# Altium integrated library ALTIUM-WE-LHMI-rev18a.IntLib: 164 symbols (part 2 of 3)
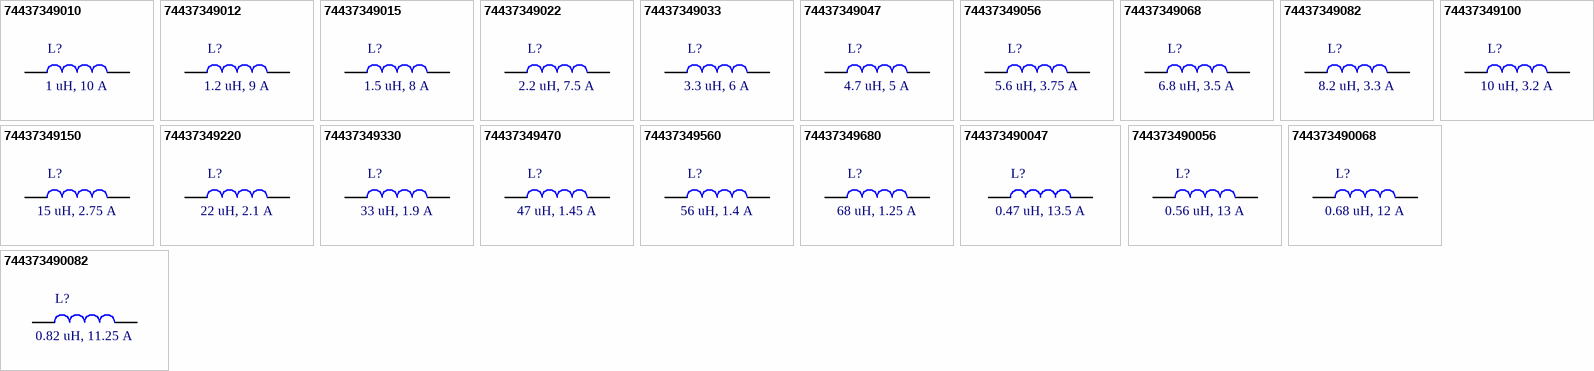
[diagram p11: symbols 74437349010 to 744373490082]

## 74437349015
designator L?, comment 1.5 uH, 8 A
SMT Power Inductor WE-LHMI, size 7050, 1.5 uH, 8 A; Part Number: 74437349015; Rated Current: 8 A; Inductance: 1.5 uH; DC Resistance max.: 9 mOhm; Saturation Current: 14.5 A; Self Resonant Frequency: 35 MHz; ComponentLink1Description: Manufacturer; ComponentLink1URL: http://www.we-online.de; ComponentLink2Description: Datasheet; ComponentLink2URL: https://katalog.we-online.com/pbs/datasheet/74437349015.pdf; Published Date: December 2018; Publisher: Wurth Elektronik; Size: 7050; Operating Temperature: -40 to +125 degC; Mounting Technology: SMT; Packaging: Tape and Reel
footprint WE-LHMI_7050
pins: 1, 2

## 74437349022
designator L?, comment 2.2 uH, 7.5 A
SMT Power Inductor WE-LHMI, size 7050, 2.2 uH, 7.5 A; Part Number: 74437349022; Rated Current: 7.5 A; Inductance: 2.2 uH; DC Resistance max.: 12 mOhm; Saturation Current: 14 A; Self Resonant Frequency: 30 MHz; ComponentLink1Description: Manufacturer; ComponentLink1URL: http://www.we-online.de; ComponentLink2Description: Datasheet; ComponentLink2URL: https://katalog.we-online.com/pbs/datasheet/74437349022.pdf; Published Date: December 2018; Publisher: Wurth Elektronik; Size: 7050; Operating Temperature: -40 to +125 degC; Mounting Technology: SMT; Packaging: Tape and Reel
footprint WE-LHMI_7050
pins: 1, 2

## 74437349033
designator L?, comment 3.3 uH, 6 A
SMT Power Inductor WE-LHMI, size 7050, 3.3 uH, 6 A; Part Number: 74437349033; Rated Current: 6 A; Inductance: 3.3 uH; DC Resistance max.: 20.9 mOhm; Saturation Current: 12 A; Self Resonant Frequency: 26 MHz; ComponentLink1Description: Manufacturer; ComponentLink1URL: http://www.we-online.de; ComponentLink2Description: Datasheet; ComponentLink2URL: https://katalog.we-online.com/pbs/datasheet/74437349033.pdf; Published Date: December 2018; Publisher: Wurth Elektronik; Size: 7050; Operating Temperature: -40 to +125 degC; Mounting Technology: SMT; Packaging: Tape and Reel
footprint WE-LHMI_7050
pins: 1, 2

## 74437349047
designator L?, comment 4.7 uH, 5 A
SMT Power Inductor WE-LHMI, size 7050, 4.7 uH, 5 A; Part Number: 74437349047; Rated Current: 5 A; Inductance: 4.7 uH; DC Resistance max.: 30.8 mOhm; Saturation Current: 11 A; Self Resonant Frequency: 24 MHz; ComponentLink1Description: Manufacturer; ComponentLink1URL: http://www.we-online.de; ComponentLink2Description: Datasheet; ComponentLink2URL: https://katalog.we-online.com/pbs/datasheet/74437349047.pdf; Published Date: December 2018; Publisher: Wurth Elektronik; Size: 7050; Operating Temperature: -40 to +125 degC; Mounting Technology: SMT; Packaging: Tape and Reel
footprint WE-LHMI_7050
pins: 1, 2

## 74437349056
designator L?, comment 5.6 uH, 3.75 A
SMT Power Inductor WE-LHMI, size 7050, 5.6 uH, 3.75 A; Part Number: 74437349056; Rated Current: 3.75 A; Inductance: 5.6 uH; DC Resistance max.: 49 mOhm; Saturation Current: 10.5 A; Self Resonant Frequency: 17 MHz; ComponentLink1Description: Manufacturer; ComponentLink1URL: http://www.we-online.de; ComponentLink2Description: Datasheet; ComponentLink2URL: https://katalog.we-online.com/pbs/datasheet/74437349056.pdf; Published Date: December 2018; Publisher: Wurth Elektronik; Size: 7050; Operating Temperature: -40 to +125 degC; Mounting Technology: SMT; Packaging: Tape and Reel
footprint WE-LHMI_7050
pins: 1, 2

## 74437349068
designator L?, comment 6.8 uH, 3.5 A
SMT Power Inductor WE-LHMI, size 7050, 6.8 uH, 3.5 A; Part Number: 74437349068; Rated Current: 3.5 A; Inductance: 6.8 uH; DC Resistance max.: 51.5 mOhm; Saturation Current: 9.5 A; Self Resonant Frequency: 16 MHz; ComponentLink1Description: Manufacturer; ComponentLink1URL: http://www.we-online.de; ComponentLink2Description: Datasheet; ComponentLink2URL: https://katalog.we-online.com/pbs/datasheet/74437349068.pdf; Published Date: December 2018; Publisher: Wurth Elektronik; Size: 7050; Operating Temperature: -40 to +125 degC; Mounting Technology: SMT; Packaging: Tape and Reel
footprint WE-LHMI_7050
pins: 1, 2

## 74437349082
designator L?, comment 8.2 uH, 3.3 A
SMT Power Inductor WE-LHMI, size 7050, 8.2 uH, 3.3 A; Part Number: 74437349082; Rated Current: 3.3 A; Inductance: 8.2 uH; DC Resistance max.: 63 mOhm; Saturation Current: 9 A; Self Resonant Frequency: 15 MHz; ComponentLink1Description: Manufacturer; ComponentLink1URL: http://www.we-online.de; ComponentLink2Description: Datasheet; ComponentLink2URL: https://katalog.we-online.com/pbs/datasheet/74437349082.pdf; Published Date: December 2018; Publisher: Wurth Elektronik; Size: 7050; Operating Temperature: -40 to +125 degC; Mounting Technology: SMT; Packaging: Tape and Reel
footprint WE-LHMI_7050
pins: 1, 2

## 74437349100
designator L?, comment 10 uH, 3.2 A
SMT Power Inductor WE-LHMI, size 7050, 10 uH, 3.2 A; Part Number: 74437349100; Rated Current: 3.2 A; Inductance: 10 uH; DC Resistance max.: 69 mOhm; Saturation Current: 8 A; Self Resonant Frequency: 12 MHz; ComponentLink1Description: Manufacturer; ComponentLink1URL: http://www.we-online.de; ComponentLink2Description: Datasheet; ComponentLink2URL: https://katalog.we-online.com/pbs/datasheet/74437349100.pdf; Published Date: December 2018; Publisher: Wurth Elektronik; Size: 7050; Operating Temperature: -40 to +125 degC; Mounting Technology: SMT; Packaging: Tape and Reel
footprint WE-LHMI_7050
pins: 1, 2

## 74437349150
designator L?, comment 15 uH, 2.75 A
SMT Power Inductor WE-LHMI, size 7050, 15 uH, 2.75 A; Part Number: 74437349150; Rated Current: 2.75 A; Inductance: 15 uH; DC Resistance max.: 92 mOhm; Saturation Current: 5.5 A; Self Resonant Frequency: 10 MHz; ComponentLink1Description: Manufacturer; ComponentLink1URL: http://www.we-online.de; ComponentLink2Description: Datasheet; ComponentLink2URL: https://katalog.we-online.com/pbs/datasheet/74437349150.pdf; Published Date: December 2018; Publisher: Wurth Elektronik; Size: 7050; Operating Temperature: -40 to +125 degC; Mounting Technology: SMT; Packaging: Tape and Reel
footprint WE-LHMI_7050
pins: 1, 2

## 74437349220
designator L?, comment 22 uH, 2.1 A
SMT Power Inductor WE-LHMI, size 7050, 22 uH, 2.1 A; Part Number: 74437349220; Rated Current: 2.1 A; Inductance: 22 uH; DC Resistance max.: 170 mOhm; Saturation Current: 6.5 A; Self Resonant Frequency: 8 MHz; ComponentLink1Description: Manufacturer; ComponentLink1URL: http://www.we-online.de; ComponentLink2Description: Datasheet; ComponentLink2URL: https://katalog.we-online.com/pbs/datasheet/74437349220.pdf; Published Date: December 2018; Publisher: Wurth Elektronik; Size: 7050; Operating Temperature: -40 to +125 degC; Mounting Technology: SMT; Packaging: Tape and Reel
footprint WE-LHMI_7050
pins: 1, 2

## 74437349330
designator L?, comment 33 uH, 1.9 A
SMT Power Inductor WE-LHMI, size 7050, 33 uH, 1.9 A; Part Number: 74437349330; Rated Current: 1.9 A; Inductance: 33 uH; DC Resistance max.: 200 mOhm; Saturation Current: 3.5 A; Self Resonant Frequency: 7.5 MHz; ComponentLink1Description: Manufacturer; ComponentLink1URL: http://www.we-online.de; ComponentLink2Description: Datasheet; ComponentLink2URL: https://katalog.we-online.com/pbs/datasheet/74437349330.pdf; Published Date: December 2018; Publisher: Wurth Elektronik; Size: 7050; Operating Temperature: -40 to +125 degC; Mounting Technology: SMT; Packaging: Tape and Reel
footprint WE-LHMI_7050
pins: 1, 2

## 74437349470
designator L?, comment 47 uH, 1.45 A
SMT Power Inductor WE-LHMI, size 7050, 47 uH, 1.45 A; Part Number: 74437349470; Rated Current: 1.45 A; Inductance: 47 uH; DC Resistance max.: 330 mOhm; Saturation Current: 2.45 A; Self Resonant Frequency: 7.3 MHz; ComponentLink1Description: Manufacturer; ComponentLink1URL: http://www.we-online.de; ComponentLink2Description: Datasheet; ComponentLink2URL: https://katalog.we-online.com/pbs/datasheet/74437349470.pdf; Published Date: December 2018; Publisher: Wurth Elektronik; Size: 7050; Operating Temperature: -40 to +125 degC; Mounting Technology: SMT; Packaging: Tape and Reel
footprint WE-LHMI_7050
pins: 1, 2

## 74437349560
designator L?, comment 56 uH, 1.4 A
SMT Power Inductor WE-LHMI, size 7050, 56 uH, 1.4 A; Part Number: 74437349560; Rated Current: 1.4 A; Inductance: 56 uH; DC Resistance max.: 396 mOhm; Saturation Current: 2 A; Self Resonant Frequency: 6 MHz; ComponentLink1Description: Manufacturer; ComponentLink1URL: http://www.we-online.de; ComponentLink2Description: Datasheet; ComponentLink2URL: https://katalog.we-online.com/pbs/datasheet/74437349560.pdf; Published Date: December 2018; Publisher: Wurth Elektronik; Size: 7050; Operating Temperature: -40 to +125 degC; Mounting Technology: SMT; Packaging: Tape and Reel
footprint WE-LHMI_7050
pins: 1, 2

## 74437349680
designator L?, comment 68 uH, 1.25 A
SMT Power Inductor WE-LHMI, size 7050, 68 uH, 1.25 A; Part Number: 74437349680; Rated Current: 1.25 A; Inductance: 68 uH; DC Resistance max.: 445 mOhm; Saturation Current: 2.5 A; Self Resonant Frequency: 3.5 MHz; ComponentLink1Description: Manufacturer; ComponentLink1URL: http://www.we-online.de; ComponentLink2Description: Datasheet; ComponentLink2URL: https://katalog.we-online.com/pbs/datasheet/74437349680.pdf; Published Date: December 2018; Publisher: Wurth Elektronik; Size: 7050; Operating Temperature: -40 to +125 degC; Mounting Technology: SMT; Packaging: Tape and Reel
footprint WE-LHMI_7050
pins: 1, 2

## 744373490047
designator L?, comment 0.47 uH, 13.5 A
SMT Power Inductor WE-LHMI, size 7050, 0.47 uH, 13.5 A; Part Number: 744373490047; Rated Current: 13.5 A; Inductance: 0.47 uH; DC Resistance max.: 3.9 mOhm; Saturation Current: 30 A; Self Resonant Frequency: 96 MHz; ComponentLink1Description: Manufacturer; ComponentLink1URL: http://www.we-online.de; ComponentLink2Description: Datasheet; ComponentLink2URL: https://katalog.we-online.com/pbs/datasheet/744373490047.pdf; Published Date: December 2018; Publisher: Wurth Elektronik; Size: 7050; Operating Temperature: -40 to +125 degC; Mounting Technology: SMT; Packaging: Tape and Reel
footprint WE-LHMI_7050
pins: 1, 2

## 744373490056
designator L?, comment 0.56 uH, 13 A
SMT Power Inductor WE-LHMI, size 7050, 0.56 uH, 13 A; Part Number: 744373490056; Rated Current: 13 A; Inductance: 0.56 uH; DC Resistance max.: 4.2 mOhm; Saturation Current: 28 A; Self Resonant Frequency: 85 MHz; ComponentLink1Description: Manufacturer; ComponentLink1URL: http://www.we-online.de; ComponentLink2Description: Datasheet; ComponentLink2URL: https://katalog.we-online.com/pbs/datasheet/744373490056.pdf; Published Date: December 2018; Publisher: Wurth Elektronik; Size: 7050; Operating Temperature: -40 to +125 degC; Mounting Technology: SMT; Packaging: Tape and Reel
footprint WE-LHMI_7050
pins: 1, 2

## 744373490068
designator L?, comment 0.68 uH, 12 A
SMT Power Inductor WE-LHMI, size 7050, 0.68 uH, 12 A; Part Number: 744373490068; Rated Current: 12 A; Inductance: 0.68 uH; DC Resistance max.: 4.5 mOhm; Saturation Current: 26 A; Self Resonant Frequency: 73 MHz; ComponentLink1Description: Manufacturer; ComponentLink1URL: http://www.we-online.de; ComponentLink2Description: Datasheet; ComponentLink2URL: https://katalog.we-online.com/pbs/datasheet/744373490068.pdf; Published Date: December 2018; Publisher: Wurth Elektronik; Size: 7050; Operating Temperature: -40 to +125 degC; Mounting Technology: SMT; Packaging: Tape and Reel
footprint WE-LHMI_7050
pins: 1, 2

## 744373490082
designator L?, comment 0.82 uH, 11.25 A
SMT Power Inductor WE-LHMI, size 7050, 0.82 uH, 11.25 A; Part Number: 744373490082; Rated Current: 11.25 A; Inductance: 0.82 uH; DC Resistance max.: 4.9 mOhm; Saturation Current: 25 A; Self Resonant Frequency: 70 MHz; ComponentLink1Description: Manufacturer; ComponentLink1URL: http://www.we-online.de; ComponentLink2Description: Datasheet; ComponentLink2URL: https://katalog.we-online.com/pbs/datasheet/744373490082.pdf; Published Date: December 2018; Publisher: Wurth Elektronik; Size: 7050; Operating Temperature: -40 to +125 degC; Mounting Technology: SMT; Packaging: Tape and Reel
footprint WE-LHMI_7050
pins: 1, 2


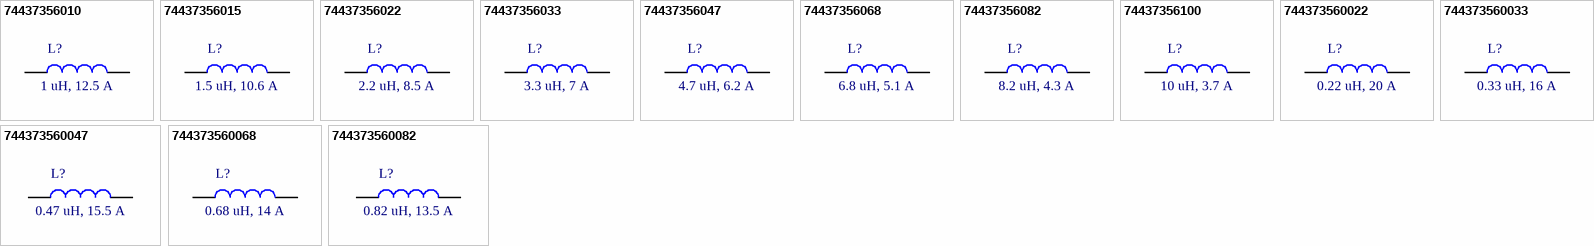
[diagram p6: symbols 74437356010 to 744373560082]

## 74437356010
designator L?, comment 1 uH, 12.5 A
SMT Power Inductor WE-LHMI, size 8030, 1 uH, 12.5 A; Part Number: 74437356010; Rated Current: 12.5 A; Inductance: 1 uH; DC Resistance max.: 8.35 mOhm; Saturation Current: 25.5 A; Self Resonant Frequency: 44 MHz; ComponentLink1Description: Manufacturer; ComponentLink1URL: http://www.we-online.de; ComponentLink2Description: Datasheet; ComponentLink2URL: https://katalog.we-online.com/pbs/datasheet/74437356010.pdf; Published Date: December 2018; Publisher: Wurth Elektronik; Size: 8030; Operating Temperature: -40 to +125 degC; Mounting Technology: SMT; Packaging: Tape and Reel
footprint WE-LHMI_8030
pins: 1, 2

## 74437356015
designator L?, comment 1.5 uH, 10.6 A
SMT Power Inductor WE-LHMI, size 8030, 1.5 uH, 10.6 A; Part Number: 74437356015; Rated Current: 10.6 A; Inductance: 1.5 uH; DC Resistance max.: 13.3 mOhm; Saturation Current: 21 A; Self Resonant Frequency: 32 MHz; ComponentLink1Description: Manufacturer; ComponentLink1URL: http://www.we-online.de; ComponentLink2Description: Datasheet; ComponentLink2URL: https://katalog.we-online.com/pbs/datasheet/74437356015.pdf; Published Date: December 2018; Publisher: Wurth Elektronik; Size: 8030; Operating Temperature: -40 to +125 degC; Mounting Technology: SMT; Packaging: Tape and Reel
footprint WE-LHMI_8030
pins: 1, 2

## 74437356022
designator L?, comment 2.2 uH, 8.5 A
SMT Power Inductor WE-LHMI, size 8030, 2.2 uH, 8.5 A; Part Number: 74437356022; Rated Current: 8.5 A; Inductance: 2.2 uH; DC Resistance max.: 20.3 mOhm; Saturation Current: 15.5 A; Self Resonant Frequency: 24 MHz; ComponentLink1Description: Manufacturer; ComponentLink1URL: http://www.we-online.de; ComponentLink2Description: Datasheet; ComponentLink2URL: https://katalog.we-online.com/pbs/datasheet/74437356022.pdf; Published Date: December 2018; Publisher: Wurth Elektronik; Size: 8030; Operating Temperature: -40 to +125 degC; Mounting Technology: SMT; Packaging: Tape and Reel
footprint WE-LHMI_8030
pins: 1, 2

## 74437356033
designator L?, comment 3.3 uH, 7 A
SMT Power Inductor WE-LHMI, size 8030, 3.3 uH, 7 A; Part Number: 74437356033; Rated Current: 7 A; Inductance: 3.3 uH; DC Resistance max.: 27.4 mOhm; Saturation Current: 12.5 A; Self Resonant Frequency: 19 MHz; ComponentLink1Description: Manufacturer; ComponentLink1URL: http://www.we-online.de; ComponentLink2Description: Datasheet; ComponentLink2URL: https://katalog.we-online.com/pbs/datasheet/74437356033.pdf; Published Date: December 2018; Publisher: Wurth Elektronik; Size: 8030; Operating Temperature: -40 to +125 degC; Mounting Technology: SMT; Packaging: Tape and Reel
footprint WE-LHMI_8030
pins: 1, 2

## 74437356047
designator L?, comment 4.7 uH, 6.2 A
SMT Power Inductor WE-LHMI, size 8030, 4.7 uH, 6.2 A; Part Number: 74437356047; Rated Current: 6.2 A; Inductance: 4.7 uH; DC Resistance max.: 34.2 mOhm; Saturation Current: 11 A; Self Resonant Frequency: 16 MHz; ComponentLink1Description: Manufacturer; ComponentLink1URL: http://www.we-online.de; ComponentLink2Description: Datasheet; ComponentLink2URL: https://katalog.we-online.com/pbs/datasheet/74437356047.pdf; Published Date: December 2018; Publisher: Wurth Elektronik; Size: 8030; Operating Temperature: -40 to +125 degC; Mounting Technology: SMT; Packaging: Tape and Reel
footprint WE-LHMI_8030
pins: 1, 2

## 74437356068
designator L?, comment 6.8 uH, 5.1 A
SMT Power Inductor WE-LHMI, size 8030, 6.8 uH, 5.1 A; Part Number: 74437356068; Rated Current: 5.1 A; Inductance: 6.8 uH; DC Resistance max.: 49.3 mOhm; Saturation Current: 10.5 A; Self Resonant Frequency: 14 MHz; ComponentLink1Description: Manufacturer; ComponentLink1URL: http://www.we-online.de; ComponentLink2Description: Datasheet; ComponentLink2URL: https://katalog.we-online.com/pbs/datasheet/74437356068.pdf; Published Date: December 2018; Publisher: Wurth Elektronik; Size: 8030; Operating Temperature: -40 to +125 degC; Mounting Technology: SMT; Packaging: Tape and Reel
footprint WE-LHMI_8030
pins: 1, 2

## 74437356082
designator L?, comment 8.2 uH, 4.3 A
SMT Power Inductor WE-LHMI, size 8030, 8.2 uH, 4.3 A; Part Number: 74437356082; Rated Current: 4.3 A; Inductance: 8.2 uH; DC Resistance max.: 59.3 mOhm; Saturation Current: 10.4 A; Self Resonant Frequency: 11 MHz; ComponentLink1Description: Manufacturer; ComponentLink1URL: http://www.we-online.de; ComponentLink2Description: Datasheet; ComponentLink2URL: https://katalog.we-online.com/pbs/datasheet/74437356082.pdf; Published Date: December 2018; Publisher: Wurth Elektronik; Size: 8030; Operating Temperature: -40 to +125 degC; Mounting Technology: SMT; Packaging: Tape and Reel
footprint WE-LHMI_8030
pins: 1, 2

## 74437356100
designator L?, comment 10 uH, 3.7 A
SMT Power Inductor WE-LHMI, size 8030, 10 uH, 3.7 A; Part Number: 74437356100; Rated Current: 3.7 A; Inductance: 10 uH; DC Resistance max.: 71.2 mOhm; Saturation Current: 10 A; Self Resonant Frequency: 10 MHz; ComponentLink1Description: Manufacturer; ComponentLink1URL: http://www.we-online.de; ComponentLink2Description: Datasheet; ComponentLink2URL: https://katalog.we-online.com/pbs/datasheet/74437356100.pdf; Published Date: December 2018; Publisher: Wurth Elektronik; Size: 8030; Operating Temperature: -40 to +125 degC; Mounting Technology: SMT; Packaging: Tape and Reel
footprint WE-LHMI_8030
pins: 1, 2

## 744373560022
designator L?, comment 0.22 uH, 20 A
SMT Power Inductor WE-LHMI, size 8030, 0.22 uH, 20 A; Part Number: 744373560022; Rated Current: 20 A; Inductance: 0.22 uH; DC Resistance max.: 1.61 mOhm; Saturation Current: 40 A; Self Resonant Frequency: 110 MHz; ComponentLink1Description: Manufacturer; ComponentLink1URL: http://www.we-online.de; ComponentLink2Description: Datasheet; ComponentLink2URL: https://katalog.we-online.com/pbs/datasheet/744373560022.pdf; Published Date: December 2018; Publisher: Wurth Elektronik; Size: 8030; Operating Temperature: -40 to +125 degC; Mounting Technology: SMT; Packaging: Tape and Reel
footprint WE-LHMI_8030
pins: 1, 2

## 744373560033
designator L?, comment 0.33 uH, 16 A
SMT Power Inductor WE-LHMI, size 8030, 0.33 uH, 16 A; Part Number: 744373560033; Rated Current: 16 A; Inductance: 0.33 uH; DC Resistance max.: 2.57 mOhm; Saturation Current: 39 A; Self Resonant Frequency: 95 MHz; ComponentLink1Description: Manufacturer; ComponentLink1URL: http://www.we-online.de; ComponentLink2Description: Datasheet; ComponentLink2URL: https://katalog.we-online.com/pbs/datasheet/744373560033.pdf; Published Date: December 2018; Publisher: Wurth Elektronik; Size: 8030; Operating Temperature: -40 to +125 degC; Mounting Technology: SMT; Packaging: Tape and Reel
footprint WE-LHMI_8030
pins: 1, 2

## 744373560047
designator L?, comment 0.47 uH, 15.5 A
SMT Power Inductor WE-LHMI, size 8030, 0.47 uH, 15.5 A; Part Number: 744373560047; Rated Current: 15.5 A; Inductance: 0.47 uH; DC Resistance max.: 3.33 mOhm; Saturation Current: 35 A; Self Resonant Frequency: 72 MHz; ComponentLink1Description: Manufacturer; ComponentLink1URL: http://www.we-online.de; ComponentLink2Description: Datasheet; ComponentLink2URL: https://katalog.we-online.com/pbs/datasheet/744373560047.pdf; Published Date: December 2018; Publisher: Wurth Elektronik; Size: 8030; Operating Temperature: -40 to +125 degC; Mounting Technology: SMT; Packaging: Tape and Reel
footprint WE-LHMI_8030
pins: 1, 2

## 744373560068
designator L?, comment 0.68 uH, 14 A
SMT Power Inductor WE-LHMI, size 8030, 0.68 uH, 14 A; Part Number: 744373560068; Rated Current: 14 A; Inductance: 0.68 uH; DC Resistance max.: 3.99 mOhm; Saturation Current: 32.5 A; Self Resonant Frequency: 53 MHz; ComponentLink1Description: Manufacturer; ComponentLink1URL: http://www.we-online.de; ComponentLink2Description: Datasheet; ComponentLink2URL: https://katalog.we-online.com/pbs/datasheet/744373560068.pdf; Published Date: December 2018; Publisher: Wurth Elektronik; Size: 8030; Operating Temperature: -40 to +125 degC; Mounting Technology: SMT; Packaging: Tape and Reel
footprint WE-LHMI_8030
pins: 1, 2

## 744373560082
designator L?, comment 0.82 uH, 13.5 A
SMT Power Inductor WE-LHMI, size 8030, 0.82 uH, 13.5 A; Part Number: 744373560082; Rated Current: 13.5 A; Inductance: 0.82 uH; DC Resistance max.: 4.87 mOhm; Saturation Current: 30.5 A; Self Resonant Frequency: 51 MHz; ComponentLink1Description: Manufacturer; ComponentLink1URL: http://www.we-online.de; ComponentLink2Description: Datasheet; ComponentLink2URL: https://katalog.we-online.com/pbs/datasheet/744373560082.pdf; Published Date: December 2018; Publisher: Wurth Elektronik; Size: 8030; Operating Temperature: -40 to +125 degC; Mounting Technology: SMT; Packaging: Tape and Reel
footprint WE-LHMI_8030
pins: 1, 2


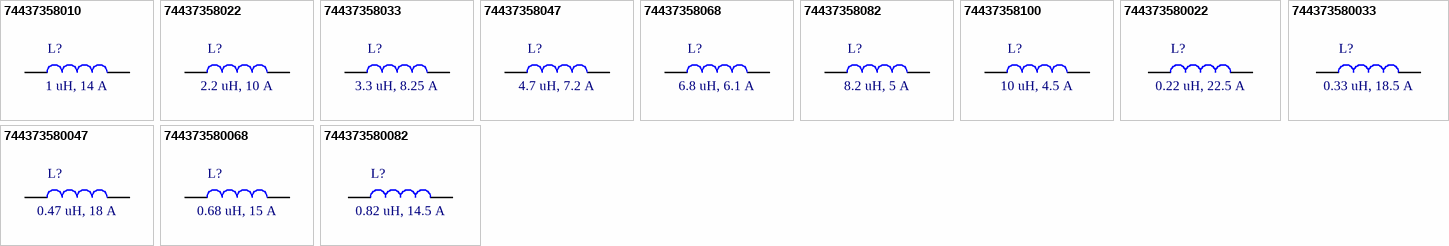
[diagram p7: symbols 74437358010 to 744373580082]

## 74437358010
designator L?, comment 1 uH, 14 A
SMT Power Inductor WE-LHMI, size 8040, 1 uH, 14 A; Part Number: 74437358010; Rated Current: 14 A; Inductance: 1 uH; DC Resistance max.: 4.63 mOhm; Saturation Current: 32.5 A; Self Resonant Frequency: 42 MHz; ComponentLink1Description: Manufacturer; ComponentLink1URL: http://www.we-online.de; ComponentLink2Description: Datasheet; ComponentLink2URL: https://katalog.we-online.com/pbs/datasheet/74437358010.pdf; Published Date: December 2018; Publisher: Wurth Elektronik; Size: 8040; Operating Temperature: -40 to +125 degC; Mounting Technology: SMT; Packaging: Tape and Reel
footprint WE-LHMI_8040
pins: 1, 2

## 74437358022
designator L?, comment 2.2 uH, 10 A
SMT Power Inductor WE-LHMI, size 8040, 2.2 uH, 10 A; Part Number: 74437358022; Rated Current: 10 A; Inductance: 2.2 uH; DC Resistance max.: 9.41 mOhm; Saturation Current: 22 A; Self Resonant Frequency: 29 MHz; ComponentLink1Description: Manufacturer; ComponentLink1URL: http://www.we-online.de; ComponentLink2Description: Datasheet; ComponentLink2URL: https://katalog.we-online.com/pbs/datasheet/74437358022.pdf; Published Date: December 2018; Publisher: Wurth Elektronik; Size: 8040; Operating Temperature: -40 to +125 degC; Mounting Technology: SMT; Packaging: Tape and Reel
footprint WE-LHMI_8040
pins: 1, 2

## 74437358033
designator L?, comment 3.3 uH, 8.25 A
SMT Power Inductor WE-LHMI, size 8040, 3.3 uH, 8.25 A; Part Number: 74437358033; Rated Current: 8.25 A; Inductance: 3.3 uH; DC Resistance max.: 14.9 mOhm; Saturation Current: 20 A; Self Resonant Frequency: 20 MHz; ComponentLink1Description: Manufacturer; ComponentLink1URL: http://www.we-online.de; ComponentLink2Description: Datasheet; ComponentLink2URL: https://katalog.we-online.com/pbs/datasheet/74437358033.pdf; Published Date: December 2018; Publisher: Wurth Elektronik; Size: 8040; Operating Temperature: -40 to +125 degC; Mounting Technology: SMT; Packaging: Tape and Reel
footprint WE-LHMI_8040
pins: 1, 2

## 74437358047
designator L?, comment 4.7 uH, 7.2 A
SMT Power Inductor WE-LHMI, size 8040, 4.7 uH, 7.2 A; Part Number: 74437358047; Rated Current: 7.2 A; Inductance: 4.7 uH; DC Resistance max.: 22.6 mOhm; Saturation Current: 17 A; Self Resonant Frequency: 19 MHz; ComponentLink1Description: Manufacturer; ComponentLink1URL: http://www.we-online.de; ComponentLink2Description: Datasheet; ComponentLink2URL: https://katalog.we-online.com/pbs/datasheet/74437358047.pdf; Published Date: December 2018; Publisher: Wurth Elektronik; Size: 8040; Operating Temperature: -40 to +125 degC; Mounting Technology: SMT; Packaging: Tape and Reel
footprint WE-LHMI_8040
pins: 1, 2

## 74437358068
designator L?, comment 6.8 uH, 6.1 A
SMT Power Inductor WE-LHMI, size 8040, 6.8 uH, 6.1 A; Part Number: 74437358068; Rated Current: 6.1 A; Inductance: 6.8 uH; DC Resistance max.: 33.4 mOhm; Saturation Current: 13.5 A; Self Resonant Frequency: 12 MHz; ComponentLink1Description: Manufacturer; ComponentLink1URL: http://www.we-online.de; ComponentLink2Description: Datasheet; ComponentLink2URL: https://katalog.we-online.com/pbs/datasheet/74437358068.pdf; Published Date: December 2018; Publisher: Wurth Elektronik; Size: 8040; Operating Temperature: -40 to +125 degC; Mounting Technology: SMT; Packaging: Tape and Reel
footprint WE-LHMI_8040
pins: 1, 2

## 74437358082
designator L?, comment 8.2 uH, 5 A
SMT Power Inductor WE-LHMI, size 8040, 8.2 uH, 5 A; Part Number: 74437358082; Rated Current: 5 A; Inductance: 8.2 uH; DC Resistance max.: 45 mOhm; Saturation Current: 13 A; Self Resonant Frequency: 10 MHz; ComponentLink1Description: Manufacturer; ComponentLink1URL: http://www.we-online.de; ComponentLink2Description: Datasheet; ComponentLink2URL: https://katalog.we-online.com/pbs/datasheet/74437358082.pdf; Published Date: December 2018; Publisher: Wurth Elektronik; Size: 8040; Operating Temperature: -40 to +125 degC; Mounting Technology: SMT; Packaging: Tape and Reel
footprint WE-LHMI_8040
pins: 1, 2

## 74437358100
designator L?, comment 10 uH, 4.5 A
SMT Power Inductor WE-LHMI, size 8040, 10 uH, 4.5 A; Part Number: 74437358100; Rated Current: 4.5 A; Inductance: 10 uH; DC Resistance max.: 51.8 mOhm; Saturation Current: 12.4 A; Self Resonant Frequency: 9 MHz; ComponentLink1Description: Manufacturer; ComponentLink1URL: http://www.we-online.de; ComponentLink2Description: Datasheet; ComponentLink2URL: https://katalog.we-online.com/pbs/datasheet/74437358100.pdf; Published Date: December 2018; Publisher: Wurth Elektronik; Size: 8040; Operating Temperature: -40 to +125 degC; Mounting Technology: SMT; Packaging: Tape and Reel
footprint WE-LHMI_8040
pins: 1, 2

## 744373580022
designator L?, comment 0.22 uH, 22.5 A
SMT Power Inductor WE-LHMI, size 8040, 0.22 uH, 22.5 A; Part Number: 744373580022; Rated Current: 22.5 A; Inductance: 0.22 uH; DC Resistance max.: 1.35 mOhm; Saturation Current: 60 A; Self Resonant Frequency: 145 MHz; ComponentLink1Description: Manufacturer; ComponentLink1URL: http://www.we-online.de; ComponentLink2Description: Datasheet; ComponentLink2URL: https://katalog.we-online.com/pbs/datasheet/744373580022.pdf; Published Date: December 2018; Publisher: Wurth Elektronik; Size: 8040; Operating Temperature: -40 to +125 degC; Mounting Technology: SMT; Packaging: Tape and Reel
footprint WE-LHMI_8040
pins: 1, 2

## 744373580033
designator L?, comment 0.33 uH, 18.5 A
SMT Power Inductor WE-LHMI, size 8040, 0.33 uH, 18.5 A; Part Number: 744373580033; Rated Current: 18.5 A; Inductance: 0.33 uH; DC Resistance max.: 2.15 mOhm; Saturation Current: 50 A; Self Resonant Frequency: 96 MHz; ComponentLink1Description: Manufacturer; ComponentLink1URL: http://www.we-online.de; ComponentLink2Description: Datasheet; ComponentLink2URL: https://katalog.we-online.com/pbs/datasheet/744373580033.pdf; Published Date: December 2018; Publisher: Wurth Elektronik; Size: 8040; Operating Temperature: -40 to +125 degC; Mounting Technology: SMT; Packaging: Tape and Reel
footprint WE-LHMI_8040
pins: 1, 2

## 744373580047
designator L?, comment 0.47 uH, 18 A
SMT Power Inductor WE-LHMI, size 8040, 0.47 uH, 18 A; Part Number: 744373580047; Rated Current: 18 A; Inductance: 0.47 uH; DC Resistance max.: 2.38 mOhm; Saturation Current: 42 A; Self Resonant Frequency: 82 MHz; ComponentLink1Description: Manufacturer; ComponentLink1URL: http://www.we-online.de; ComponentLink2Description: Datasheet; ComponentLink2URL: https://katalog.we-online.com/pbs/datasheet/744373580047.pdf; Published Date: December 2018; Publisher: Wurth Elektronik; Size: 8040; Operating Temperature: -40 to +125 degC; Mounting Technology: SMT; Packaging: Tape and Reel
footprint WE-LHMI_8040
pins: 1, 2

## 744373580068
designator L?, comment 0.68 uH, 15 A
SMT Power Inductor WE-LHMI, size 8040, 0.68 uH, 15 A; Part Number: 744373580068; Rated Current: 15 A; Inductance: 0.68 uH; DC Resistance max.: 3.22 mOhm; Saturation Current: 28 A; Self Resonant Frequency: 45 MHz; ComponentLink1Description: Manufacturer; ComponentLink1URL: http://www.we-online.de; ComponentLink2Description: Datasheet; ComponentLink2URL: https://katalog.we-online.com/pbs/datasheet/744373580068.pdf; Published Date: December 2018; Publisher: Wurth Elektronik; Size: 8040; Operating Temperature: -40 to +125 degC; Mounting Technology: SMT; Packaging: Tape and Reel
footprint WE-LHMI_8040
pins: 1, 2

## 744373580082
designator L?, comment 0.82 uH, 14.5 A
SMT Power Inductor WE-LHMI, size 8040, 0.82 uH, 14.5 A; Part Number: 744373580082; Rated Current: 14.5 A; Inductance: 0.82 uH; DC Resistance max.: 3.88 mOhm; Saturation Current: 32 A; Self Resonant Frequency: 51 MHz; ComponentLink1Description: Manufacturer; ComponentLink1URL: http://www.we-online.de; ComponentLink2Description: Datasheet; ComponentLink2URL: https://katalog.we-online.com/pbs/datasheet/744373580082.pdf; Published Date: December 2018; Publisher: Wurth Elektronik; Size: 8040; Operating Temperature: -40 to +125 degC; Mounting Technology: SMT; Packaging: Tape and Reel
footprint WE-LHMI_8040
pins: 1, 2


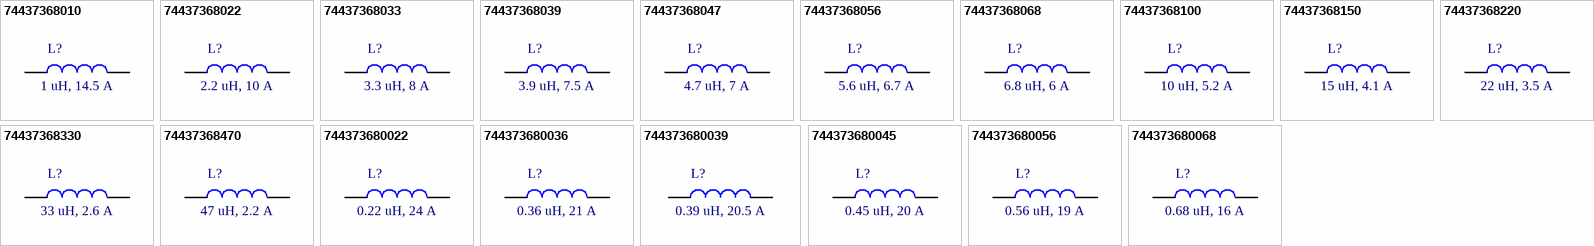
[diagram p8: symbols 74437368010 to 744373680068]

## 74437368010
designator L?, comment 1 uH, 14.5 A
SMT Power Inductor WE-LHMI, size 1040, 1 uH, 14.5 A; Part Number: 74437368010; Rated Current: 14.5 A; Inductance: 1 uH; DC Resistance max.: 3.3 mOhm; Saturation Current: 36 A; Self Resonant Frequency: 45 MHz; ComponentLink1Description: Manufacturer; ComponentLink1URL: http://www.we-online.de; ComponentLink2Description: Datasheet; ComponentLink2URL: https://katalog.we-online.com/pbs/datasheet/74437368010.pdf; Published Date: December 2018; Publisher: Wurth Elektronik; Size: 1040; Operating Temperature: -40 to +125 degC; Mounting Technology: SMT; Packaging: Tape and Reel
footprint WE-LHMI_1040
pins: 1, 2

## 74437368022
designator L?, comment 2.2 uH, 10 A
SMT Power Inductor WE-LHMI, size 1040, 2.2 uH, 10 A; Part Number: 74437368022; Rated Current: 10 A; Inductance: 2.2 uH; DC Resistance max.: 7 mOhm; Saturation Current: 28 A; Self Resonant Frequency: 27 MHz; ComponentLink1Description: Manufacturer; ComponentLink1URL: http://www.we-online.de; ComponentLink2Description: Datasheet; ComponentLink2URL: https://katalog.we-online.com/pbs/datasheet/74437368022.pdf; Published Date: December 2018; Publisher: Wurth Elektronik; Size: 1040; Operating Temperature: -40 to +125 degC; Mounting Technology: SMT; Packaging: Tape and Reel
footprint WE-LHMI_1040
pins: 1, 2

## 74437368033
designator L?, comment 3.3 uH, 8 A
SMT Power Inductor WE-LHMI, size 1040, 3.3 uH, 8 A; Part Number: 74437368033; Rated Current: 8 A; Inductance: 3.3 uH; DC Resistance max.: 11.8 mOhm; Saturation Current: 23 A; Self Resonant Frequency: 22 MHz; ComponentLink1Description: Manufacturer; ComponentLink1URL: http://www.we-online.de; ComponentLink2Description: Datasheet; ComponentLink2URL: https://katalog.we-online.com/pbs/datasheet/74437368033.pdf; Published Date: December 2018; Publisher: Wurth Elektronik; Size: 1040; Operating Temperature: -40 to +125 degC; Mounting Technology: SMT; Packaging: Tape and Reel
footprint WE-LHMI_1040
pins: 1, 2

## 74437368039
designator L?, comment 3.9 uH, 7.5 A
SMT Power Inductor WE-LHMI, size 1040, 3.9 uH, 7.5 A; Part Number: 74437368039; Rated Current: 7.5 A; Inductance: 3.9 uH; DC Resistance max.: 14.5 mOhm; Saturation Current: 19.5 A; Self Resonant Frequency: 17 MHz; ComponentLink1Description: Manufacturer; ComponentLink1URL: http://www.we-online.de; ComponentLink2Description: Datasheet; ComponentLink2URL: https://katalog.we-online.com/pbs/datasheet/74437368039.pdf; Published Date: December 2018; Publisher: Wurth Elektronik; Size: 1040; Operating Temperature: -40 to +125 degC; Mounting Technology: SMT; Packaging: Tape and Reel
footprint WE-LHMI_1040
pins: 1, 2

## 74437368047
designator L?, comment 4.7 uH, 7 A
SMT Power Inductor WE-LHMI, size 1040, 4.7 uH, 7 A; Part Number: 74437368047; Rated Current: 7 A; Inductance: 4.7 uH; DC Resistance max.: 15.5 mOhm; Saturation Current: 19 A; Self Resonant Frequency: 16 MHz; ComponentLink1Description: Manufacturer; ComponentLink1URL: http://www.we-online.de; ComponentLink2Description: Datasheet; ComponentLink2URL: https://katalog.we-online.com/pbs/datasheet/74437368047.pdf; Published Date: December 2018; Publisher: Wurth Elektronik; Size: 1040; Operating Temperature: -40 to +125 degC; Mounting Technology: SMT; Packaging: Tape and Reel
footprint WE-LHMI_1040
pins: 1, 2

## 74437368056
designator L?, comment 5.6 uH, 6.7 A
SMT Power Inductor WE-LHMI, size 1040, 5.6 uH, 6.7 A; Part Number: 74437368056; Rated Current: 6.7 A; Inductance: 5.6 uH; DC Resistance max.: 19.3 mOhm; Saturation Current: 17 A; Self Resonant Frequency: 13 MHz; ComponentLink1Description: Manufacturer; ComponentLink1URL: http://www.we-online.de; ComponentLink2Description: Datasheet; ComponentLink2URL: https://katalog.we-online.com/pbs/datasheet/74437368056.pdf; Published Date: December 2018; Publisher: Wurth Elektronik; Size: 1040; Operating Temperature: -40 to +125 degC; Mounting Technology: SMT; Packaging: Tape and Reel
footprint WE-LHMI_1040
pins: 1, 2

## 74437368068
designator L?, comment 6.8 uH, 6 A
SMT Power Inductor WE-LHMI, size 1040, 6.8 uH, 6 A; Part Number: 74437368068; Rated Current: 6 A; Inductance: 6.8 uH; DC Resistance max.: 23.3 mOhm; Saturation Current: 14 A; Self Resonant Frequency: 13 MHz; ComponentLink1Description: Manufacturer; ComponentLink1URL: http://www.we-online.de; ComponentLink2Description: Datasheet; ComponentLink2URL: https://katalog.we-online.com/pbs/datasheet/74437368068.pdf; Published Date: December 2018; Publisher: Wurth Elektronik; Size: 1040; Operating Temperature: -40 to +125 degC; Mounting Technology: SMT; Packaging: Tape and Reel
footprint WE-LHMI_1040
pins: 1, 2

## 74437368100
designator L?, comment 10 uH, 5.2 A
SMT Power Inductor WE-LHMI, size 1040, 10 uH, 5.2 A; Part Number: 74437368100; Rated Current: 5.2 A; Inductance: 10 uH; DC Resistance max.: 30 mOhm; Saturation Current: 12.5 A; Self Resonant Frequency: 12 MHz; ComponentLink1Description: Manufacturer; ComponentLink1URL: http://www.we-online.de; ComponentLink2Description: Datasheet; ComponentLink2URL: https://katalog.we-online.com/pbs/datasheet/74437368100.pdf; Published Date: December 2018; Publisher: Wurth Elektronik; Size: 1040; Operating Temperature: -40 to +125 degC; Mounting Technology: SMT; Packaging: Tape and Reel
footprint WE-LHMI_1040
pins: 1, 2

## 74437368150
designator L?, comment 15 uH, 4.1 A
SMT Power Inductor WE-LHMI, size 1040, 15 uH, 4.1 A; Part Number: 74437368150; Rated Current: 4.1 A; Inductance: 15 uH; DC Resistance max.: 45 mOhm; Saturation Current: 8.5 A; Self Resonant Frequency: 8 MHz; ComponentLink1Description: Manufacturer; ComponentLink1URL: http://www.we-online.de; ComponentLink2Description: Datasheet; ComponentLink2URL: https://katalog.we-online.com/pbs/datasheet/74437368150.pdf; Published Date: December 2018; Publisher: Wurth Elektronik; Size: 1040; Operating Temperature: -40 to +125 degC; Mounting Technology: SMT; Packaging: Tape and Reel
footprint WE-LHMI_1040
pins: 1, 2

## 74437368220
designator L?, comment 22 uH, 3.5 A
SMT Power Inductor WE-LHMI, size 1040, 22 uH, 3.5 A; Part Number: 74437368220; Rated Current: 3.5 A; Inductance: 22 uH; DC Resistance max.: 74 mOhm; Saturation Current: 8 A; Self Resonant Frequency: 7 MHz; ComponentLink1Description: Manufacturer; ComponentLink1URL: http://www.we-online.de; ComponentLink2Description: Datasheet; ComponentLink2URL: https://katalog.we-online.com/pbs/datasheet/74437368220.pdf; Published Date: December 2018; Publisher: Wurth Elektronik; Size: 1040; Operating Temperature: -40 to +125 degC; Mounting Technology: SMT; Packaging: Tape and Reel
footprint WE-LHMI_1040
pins: 1, 2

## 74437368330
designator L?, comment 33 uH, 2.6 A
SMT Power Inductor WE-LHMI, size 1040, 33 uH, 2.6 A; Part Number: 74437368330; Rated Current: 2.6 A; Inductance: 33 uH; DC Resistance max.: 112 mOhm; Saturation Current: 5 A; Self Resonant Frequency: 6 MHz; ComponentLink1Description: Manufacturer; ComponentLink1URL: http://www.we-online.de; ComponentLink2Description: Datasheet; ComponentLink2URL: https://katalog.we-online.com/pbs/datasheet/74437368330.pdf; Published Date: December 2018; Publisher: Wurth Elektronik; Size: 1040; Operating Temperature: -40 to +125 degC; Mounting Technology: SMT; Packaging: Tape and Reel
footprint WE-LHMI_1040
pins: 1, 2

## 74437368470
designator L?, comment 47 uH, 2.2 A
SMT Power Inductor WE-LHMI, size 1040, 47 uH, 2.2 A; Part Number: 74437368470; Rated Current: 2.2 A; Inductance: 47 uH; DC Resistance max.: 167 mOhm; Saturation Current: 4.5 A; Self Resonant Frequency: 5 MHz; ComponentLink1Description: Manufacturer; ComponentLink1URL: http://www.we-online.de; ComponentLink2Description: Datasheet; ComponentLink2URL: https://katalog.we-online.com/pbs/datasheet/74437368470.pdf; Published Date: December 2018; Publisher: Wurth Elektronik; Size: 1040; Operating Temperature: -40 to +125 degC; Mounting Technology: SMT; Packaging: Tape and Reel
footprint WE-LHMI_1040
pins: 1, 2

## 744373680022
designator L?, comment 0.22 uH, 24 A
SMT Power Inductor WE-LHMI, size 1040, 0.22 uH, 24 A; Part Number: 744373680022; Rated Current: 24 A; Inductance: 0.22 uH; DC Resistance max.: 1 mOhm; Saturation Current: 70 A; Self Resonant Frequency: 153 MHz; ComponentLink1Description: Manufacturer; ComponentLink1URL: http://www.we-online.de; ComponentLink2Description: Datasheet; ComponentLink2URL: https://katalog.we-online.com/pbs/datasheet/744373680022.pdf; Published Date: December 2018; Publisher: Wurth Elektronik; Size: 1040; Operating Temperature: -40 to +125 degC; Mounting Technology: SMT; Packaging: Tape and Reel
footprint WE-LHMI_1040
pins: 1, 2

## 744373680036
designator L?, comment 0.36 uH, 21 A
SMT Power Inductor WE-LHMI, size 1040, 0.36 uH, 21 A; Part Number: 744373680036; Rated Current: 21 A; Inductance: 0.36 uH; DC Resistance max.: 1.2 mOhm; Saturation Current: 64 A; Self Resonant Frequency: 104 MHz; ComponentLink1Description: Manufacturer; ComponentLink1URL: http://www.we-online.de; ComponentLink2Description: Datasheet; ComponentLink2URL: https://katalog.we-online.com/pbs/datasheet/744373680036.pdf; Published Date: December 2018; Publisher: Wurth Elektronik; Size: 1040; Operating Temperature: -40 to +125 degC; Mounting Technology: SMT; Packaging: Tape and Reel
footprint WE-LHMI_1040
pins: 1, 2

## 744373680039
designator L?, comment 0.39 uH, 20.5 A
SMT Power Inductor WE-LHMI, size 1040, 0.39 uH, 20.5 A; Part Number: 744373680039; Rated Current: 20.5 A; Inductance: 0.39 uH; DC Resistance max.: 1.3 mOhm; Saturation Current: 63 A; Self Resonant Frequency: 101 MHz; ComponentLink1Description: Manufacturer; ComponentLink1URL: http://www.we-online.de; ComponentLink2Description: Datasheet; ComponentLink2URL: https://katalog.we-online.com/pbs/datasheet/744373680039.pdf; Published Date: December 2018; Publisher: Wurth Elektronik; Size: 1040; Operating Temperature: -40 to +125 degC; Mounting Technology: SMT; Packaging: Tape and Reel
footprint WE-LHMI_1040
pins: 1, 2

## 744373680045
designator L?, comment 0.45 uH, 20 A
SMT Power Inductor WE-LHMI, size 1040, 0.45 uH, 20 A; Part Number: 744373680045; Rated Current: 20 A; Inductance: 0.45 uH; DC Resistance max.: 1.5 mOhm; Saturation Current: 50 A; Self Resonant Frequency: 82 MHz; ComponentLink1Description: Manufacturer; ComponentLink1URL: http://www.we-online.de; ComponentLink2Description: Datasheet; ComponentLink2URL: https://katalog.we-online.com/pbs/datasheet/744373680045.pdf; Published Date: December 2018; Publisher: Wurth Elektronik; Size: 1040; Operating Temperature: -40 to +125 degC; Mounting Technology: SMT; Packaging: Tape and Reel
footprint WE-LHMI_1040
pins: 1, 2

## 744373680056
designator L?, comment 0.56 uH, 19 A
SMT Power Inductor WE-LHMI, size 1040, 0.56 uH, 19 A; Part Number: 744373680056; Rated Current: 19 A; Inductance: 0.56 uH; DC Resistance max.: 1.8 mOhm; Saturation Current: 44 A; Self Resonant Frequency: 70 MHz; ComponentLink1Description: Manufacturer; ComponentLink1URL: http://www.we-online.de; ComponentLink2Description: Datasheet; ComponentLink2URL: https://katalog.we-online.com/pbs/datasheet/744373680056.pdf; Published Date: December 2018; Publisher: Wurth Elektronik; Size: 1040; Operating Temperature: -40 to +125 degC; Mounting Technology: SMT; Packaging: Tape and Reel
footprint WE-LHMI_1040
pins: 1, 2

## 744373680068
designator L?, comment 0.68 uH, 16 A
SMT Power Inductor WE-LHMI, size 1040, 0.68 uH, 16 A; Part Number: 744373680068; Rated Current: 16 A; Inductance: 0.68 uH; DC Resistance max.: 2.7 mOhm; Saturation Current: 42 A; Self Resonant Frequency: 53 MHz; ComponentLink1Description: Manufacturer; ComponentLink1URL: http://www.we-online.de; ComponentLink2Description: Datasheet; ComponentLink2URL: https://katalog.we-online.com/pbs/datasheet/744373680068.pdf; Published Date: December 2018; Publisher: Wurth Elektronik; Size: 1040; Operating Temperature: -40 to +125 degC; Mounting Technology: SMT; Packaging: Tape and Reel
footprint WE-LHMI_1040
pins: 1, 2


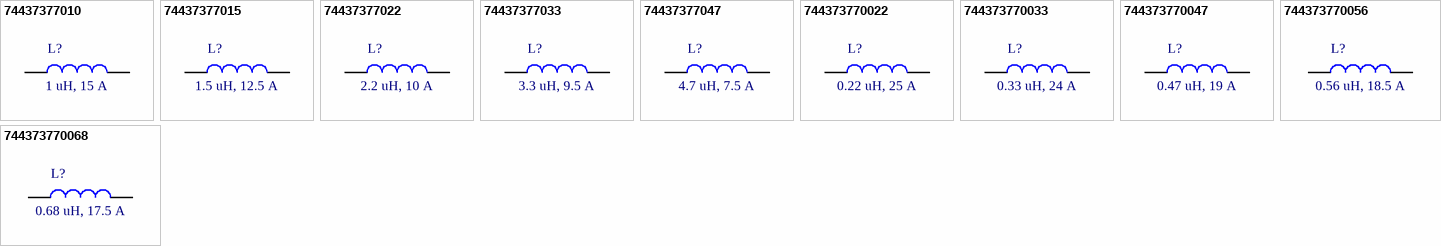
[diagram p9: symbols 74437377010 to 744373770068]

## 74437377010
designator L?, comment 1 uH, 15 A
SMT Power Inductor WE-LHMI, size 1335, 1 uH, 15 A; Part Number: 74437377010; Rated Current: 15 A; Inductance: 1 uH; DC Resistance max.: 3.5 mOhm; Saturation Current: 26 A; Self Resonant Frequency: 41 MHz; ComponentLink1Description: Manufacturer; ComponentLink1URL: http://www.we-online.de; ComponentLink2Description: Datasheet; ComponentLink2URL: https://katalog.we-online.com/pbs/datasheet/74437377010.pdf; Published Date: December 2018; Publisher: Wurth Elektronik; Size: 1335; Operating Temperature: -40 to +125 degC; Mounting Technology: SMT; Packaging: Tape and Reel
footprint WE-LHMI_1335
pins: 1, 2

## 74437377015
designator L?, comment 1.5 uH, 12.5 A
SMT Power Inductor WE-LHMI, size 1335, 1.5 uH, 12.5 A; Part Number: 74437377015; Rated Current: 12.5 A; Inductance: 1.5 uH; DC Resistance max.: 5.5 mOhm; Saturation Current: 25.5 A; Self Resonant Frequency: 30 MHz; ComponentLink1Description: Manufacturer; ComponentLink1URL: http://www.we-online.de; ComponentLink2Description: Datasheet; ComponentLink2URL: https://katalog.we-online.com/pbs/datasheet/74437377015.pdf; Published Date: December 2018; Publisher: Wurth Elektronik; Size: 1335; Operating Temperature: -40 to +125 degC; Mounting Technology: SMT; Packaging: Tape and Reel
footprint WE-LHMI_1335
pins: 1, 2

## 74437377022
designator L?, comment 2.2 uH, 10 A
SMT Power Inductor WE-LHMI, size 1335, 2.2 uH, 10 A; Part Number: 74437377022; Rated Current: 10 A; Inductance: 2.2 uH; DC Resistance max.: 8 mOhm; Saturation Current: 25 A; Self Resonant Frequency: 22 MHz; ComponentLink1Description: Manufacturer; ComponentLink1URL: http://www.we-online.de; ComponentLink2Description: Datasheet; ComponentLink2URL: https://katalog.we-online.com/pbs/datasheet/74437377022.pdf; Published Date: December 2018; Publisher: Wurth Elektronik; Size: 1335; Operating Temperature: -40 to +125 degC; Mounting Technology: SMT; Packaging: Tape and Reel
footprint WE-LHMI_1335
pins: 1, 2

## 74437377033
designator L?, comment 3.3 uH, 9.5 A
SMT Power Inductor WE-LHMI, size 1335, 3.3 uH, 9.5 A; Part Number: 74437377033; Rated Current: 9.5 A; Inductance: 3.3 uH; DC Resistance max.: 11 mOhm; Saturation Current: 24.5 A; Self Resonant Frequency: 17 MHz; ComponentLink1Description: Manufacturer; ComponentLink1URL: http://www.we-online.de; ComponentLink2Description: Datasheet; ComponentLink2URL: https://katalog.we-online.com/pbs/datasheet/74437377033.pdf; Published Date: December 2018; Publisher: Wurth Elektronik; Size: 1335; Operating Temperature: -40 to +125 degC; Mounting Technology: SMT; Packaging: Tape and Reel
footprint WE-LHMI_1335
pins: 1, 2

## 74437377047
designator L?, comment 4.7 uH, 7.5 A
SMT Power Inductor WE-LHMI, size 1335, 4.7 uH, 7.5 A; Part Number: 74437377047; Rated Current: 7.5 A; Inductance: 4.7 uH; DC Resistance max.: 15 mOhm; Saturation Current: 18 A; Self Resonant Frequency: 13 MHz; ComponentLink1Description: Manufacturer; ComponentLink1URL: http://www.we-online.de; ComponentLink2Description: Datasheet; ComponentLink2URL: https://katalog.we-online.com/pbs/datasheet/74437377047.pdf; Published Date: December 2018; Publisher: Wurth Elektronik; Size: 1335; Operating Temperature: -40 to +125 degC; Mounting Technology: SMT; Packaging: Tape and Reel
footprint WE-LHMI_1335
pins: 1, 2

## 744373770022
designator L?, comment 0.22 uH, 25 A
SMT Power Inductor WE-LHMI, size 1335, 0.22 uH, 25 A; Part Number: 744373770022; Rated Current: 25 A; Inductance: 0.22 uH; DC Resistance max.: 0.9 mOhm; Saturation Current: 40 A; Self Resonant Frequency: 130 MHz; ComponentLink1Description: Manufacturer; ComponentLink1URL: http://www.we-online.de; ComponentLink2Description: Datasheet; ComponentLink2URL: https://katalog.we-online.com/pbs/datasheet/744373770022.pdf; Published Date: December 2018; Publisher: Wurth Elektronik; Size: 1335; Operating Temperature: -40 to +125 degC; Mounting Technology: SMT; Packaging: Tape and Reel
footprint WE-LHMI_1335
pins: 1, 2

## 744373770033
designator L?, comment 0.33 uH, 24 A
SMT Power Inductor WE-LHMI, size 1335, 0.33 uH, 24 A; Part Number: 744373770033; Rated Current: 24 A; Inductance: 0.33 uH; DC Resistance max.: 1.05 mOhm; Saturation Current: 35 A; Self Resonant Frequency: 84 MHz; ComponentLink1Description: Manufacturer; ComponentLink1URL: http://www.we-online.de; ComponentLink2Description: Datasheet; ComponentLink2URL: https://katalog.we-online.com/pbs/datasheet/744373770033.pdf; Published Date: December 2018; Publisher: Wurth Elektronik; Size: 1335; Operating Temperature: -40 to +125 degC; Mounting Technology: SMT; Packaging: Tape and Reel
footprint WE-LHMI_1335
pins: 1, 2

## 744373770047
designator L?, comment 0.47 uH, 19 A
SMT Power Inductor WE-LHMI, size 1335, 0.47 uH, 19 A; Part Number: 744373770047; Rated Current: 19 A; Inductance: 0.47 uH; DC Resistance max.: 1.6 mOhm; Saturation Current: 29 A; Self Resonant Frequency: 77 MHz; ComponentLink1Description: Manufacturer; ComponentLink1URL: http://www.we-online.de; ComponentLink2Description: Datasheet; ComponentLink2URL: https://katalog.we-online.com/pbs/datasheet/744373770047.pdf; Published Date: December 2018; Publisher: Wurth Elektronik; Size: 1335; Operating Temperature: -40 to +125 degC; Mounting Technology: SMT; Packaging: Tape and Reel
footprint WE-LHMI_1335
pins: 1, 2

## 744373770056
designator L?, comment 0.56 uH, 18.5 A
SMT Power Inductor WE-LHMI, size 1335, 0.56 uH, 18.5 A; Part Number: 744373770056; Rated Current: 18.5 A; Inductance: 0.56 uH; DC Resistance max.: 1.7 mOhm; Saturation Current: 28 A; Self Resonant Frequency: 59 MHz; ComponentLink1Description: Manufacturer; ComponentLink1URL: http://www.we-online.de; ComponentLink2Description: Datasheet; ComponentLink2URL: https://katalog.we-online.com/pbs/datasheet/744373770056.pdf; Published Date: December 2018; Publisher: Wurth Elektronik; Size: 1335; Operating Temperature: -40 to +125 degC; Mounting Technology: SMT; Packaging: Tape and Reel
footprint WE-LHMI_1335
pins: 1, 2

## 744373770068
designator L?, comment 0.68 uH, 17.5 A
SMT Power Inductor WE-LHMI, size 1335, 0.68 uH, 17.5 A; Part Number: 744373770068; Rated Current: 17.5 A; Inductance: 0.68 uH; DC Resistance max.: 2.2 mOhm; Saturation Current: 27 A; Self Resonant Frequency: 51 MHz; ComponentLink1Description: Manufacturer; ComponentLink1URL: http://www.we-online.de; ComponentLink2Description: Datasheet; ComponentLink2URL: https://katalog.we-online.com/pbs/datasheet/744373770068.pdf; Published Date: December 2018; Publisher: Wurth Elektronik; Size: 1335; Operating Temperature: -40 to +125 degC; Mounting Technology: SMT; Packaging: Tape and Reel
footprint WE-LHMI_1335
pins: 1, 2


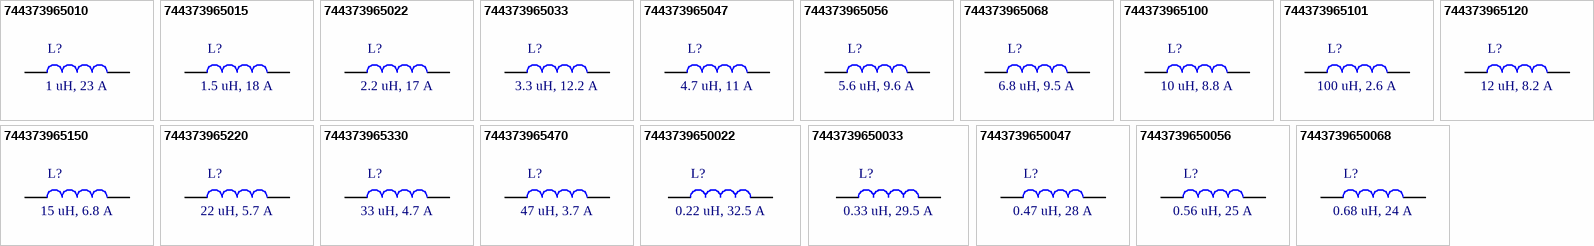
[diagram p10: symbols 744373965010 to 7443739650068]

## 744373965010
designator L?, comment 1 uH, 23 A
SMT Power Inductor WE-LHMI, size 1365, 1 uH, 23 A; Part Number: 744373965010; Rated Current: 23 A; Inductance: 1 uH; DC Resistance max.: 2.3 mOhm; Saturation Current: 48.3 A; Self Resonant Frequency: 43.5 MHz; ComponentLink1Description: Manufacturer; ComponentLink1URL: http://www.we-online.de; ComponentLink2Description: Datasheet; ComponentLink2URL: https://katalog.we-online.com/pbs/datasheet/744373965010.pdf; Published Date: December 2018; Publisher: Wurth Elektronik; Size: 1365; Operating Temperature: -40 to +125 degC; Mounting Technology: SMT; Packaging: Tape and Reel
footprint WE-LHMI_1365
pins: 1, 2

## 744373965015
designator L?, comment 1.5 uH, 18 A
SMT Power Inductor WE-LHMI, size 1365, 1.5 uH, 18 A; Part Number: 744373965015; Rated Current: 18 A; Inductance: 1.5 uH; DC Resistance max.: 3 mOhm; Saturation Current: 43 A; Self Resonant Frequency: 29.5 MHz; ComponentLink1Description: Manufacturer; ComponentLink1URL: http://www.we-online.de; ComponentLink2Description: Datasheet; ComponentLink2URL: https://katalog.we-online.com/pbs/datasheet/744373965015.pdf; Published Date: December 2018; Publisher: Wurth Elektronik; Size: 1365; Operating Temperature: -40 to +125 degC; Mounting Technology: SMT; Packaging: Tape and Reel
footprint WE-LHMI_1365
pins: 1, 2

## 744373965022
designator L?, comment 2.2 uH, 17 A
SMT Power Inductor WE-LHMI, size 1365, 2.2 uH, 17 A; Part Number: 744373965022; Rated Current: 17 A; Inductance: 2.2 uH; DC Resistance max.: 4.2 mOhm; Saturation Current: 31.3 A; Self Resonant Frequency: 21.6 MHz; ComponentLink1Description: Manufacturer; ComponentLink1URL: http://www.we-online.de; ComponentLink2Description: Datasheet; ComponentLink2URL: https://katalog.we-online.com/pbs/datasheet/744373965022.pdf; Published Date: December 2018; Publisher: Wurth Elektronik; Size: 1365; Operating Temperature: -40 to +125 degC; Mounting Technology: SMT; Packaging: Tape and Reel
footprint WE-LHMI_1365
pins: 1, 2